# EAGLE library part LTC1564 (library linear-technology)
Antialiasing Filter Digitally Controlled, 10kHz to 150kHz and 4-Bit P.G.A.
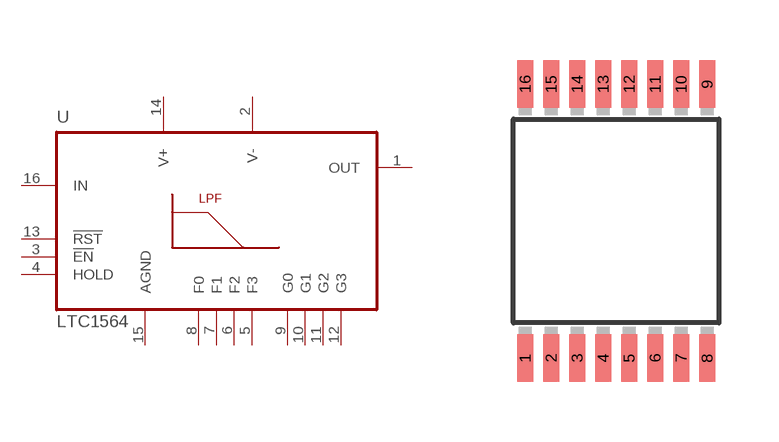
[diagram p28: symbol with the pads of SSOP16-5; footprint SSOP16-5]

Designator prefix U

## LTC1564 (P1I: o)  [SSOP16-5]
1  OUT  in
2  V-  pwr
3  !EN!  in
4  HOLD  in
5  F3  in
6  F2  in
7  F1  in
8  F0  in
9  G0  in
10  G1  in
11  G2  in
12  G3  in
13  !RST!  in
14  V+  pwr
15  AGND  pwr
16  IN  in

## Footprint SSOP16-5 (pad centres in mm)
Small Shrink Outline Package - 5.3 mm body variant
smd 0.4 x 1.2: 1 -2.275,-3.425; 2 -1.625,-3.425; 3 -0.975,-3.425; 4 -0.325,-3.425; 5 0.325,-3.425; 6 0.975,-3.425; 7 1.625,-3.425; 8 2.275,-3.425; 9 2.275,3.425; 10 1.625,3.425; 11 0.975,3.425; 12 0.325,3.425; 13 -0.325,3.425; 14 -0.975,3.425; 15 -1.625,3.425; 16 -2.275,3.425